# Altium schematic symbol library BCP5316.Schlib: 1 symbol
Pins are listed as number, name and electrical type; pins without a type are passive.

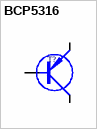
[diagram p0: symbol BCP5316]

## BCP5316
designator T?
pins: 1 B, 2 C (oc), 3 E (oe), 4 (oc)